# EAGLE library part EASYVR_3_0 (library mqp_custom_parts)
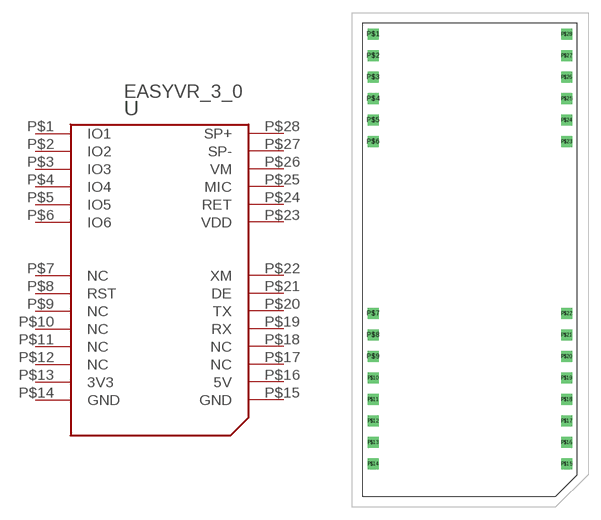
[diagram p0: symbol with the pads of EASYVR_3_0; footprint EASYVR_3_0]

Designator prefix -

## EASYVR_3_0  [EASYVR_3_0]
P$1  IO1
P$2  IO2
P$3  IO3
P$4  IO4
P$5  IO5
P$6  IO6
P$7  NC  nc
P$8  RST  in
P$9  NC  nc
P$10  NC  nc
P$11  NC  nc
P$12  NC  nc
P$13  3V3  pwr
P$14  GND  pwr
P$15  GND  pwr
P$16  5V  pwr
P$17  NC  nc
P$18  NC  nc
P$19  RX  in
P$20  TX  out
P$21  DE
P$22  XM
P$23  VDD  pwr
P$24  RET
P$25  MIC
P$26  VM
P$27  SP-
P$28  SP+

## Footprint EASYVR_3_0 (pad centres in mm)
drill 0.8 square: P$1 -11.43,25.4; P$2 -11.43,22.86; P$3 -11.43,20.32; P$4 -11.43,17.78; P$5 -11.43,15.24; P$6 -11.43,12.7; P$7 -11.43,-7.62; P$8 -11.43,-10.16; P$9 -11.43,-12.7; P$10 -11.43,-15.24; P$11 -11.43,-17.78; P$12 -11.43,-20.32; P$13 -11.43,-22.86; P$14 -11.43,-25.4; P$15 11.43,-25.4; P$16 11.43,-22.86; P$17 11.43,-20.32; P$18 11.43,-17.78; P$19 11.43,-15.24; P$20 11.43,-12.7; P$21 11.43,-10.16; P$22 11.43,-7.62; P$23 11.43,12.7; P$24 11.43,15.24; P$25 11.43,17.78; P$26 11.43,20.32; P$27 11.43,22.86; P$28 11.43,25.4